# EAGLE library part 24AA1025-I_P (library SamacSys_Parts)
Microchip 24AA1025-I/P Serial EEPROM Memory, 1Mbit, 900ns, 1.7 5.5 V 8-pin PDIP Source: Datasheet <https://componentsearchengine.com/Datasheets/1/24AA1025-I_P.pdf>
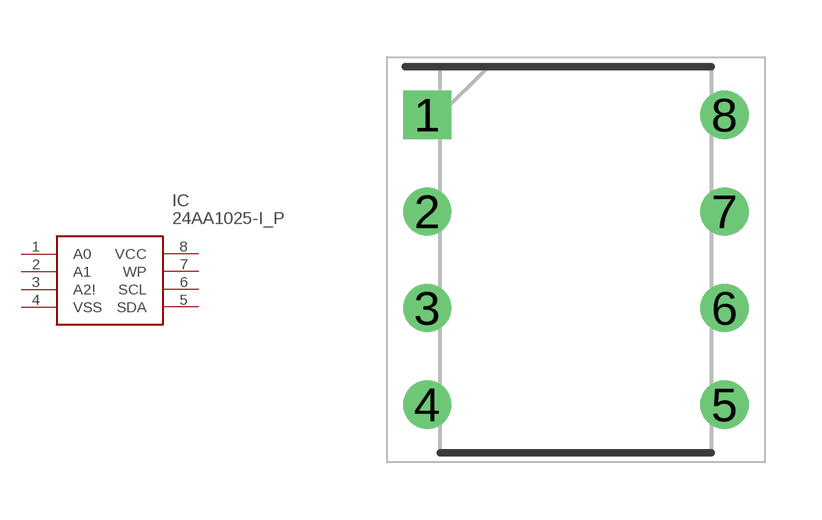
[diagram p1: symbol with the pads of DIP781W56P254L950H533Q8N; footprint DIP781W56P254L950H533Q8N]

Designator prefix IC

## 24AA1025-I_P (DESCRIPTION: Microchip 24AA1025-I/P Serial EEPROM Memory, 1Mbit, 900ns, 1.7 5.5 V 8-pin PDIP; HEIGHT: 5.334mm; MANUFACTURER_NAME: Microchip; MANUFACTURER_PART_NUMBER: 24AA1025-I/P; MOUSER_PART_NUMBER: 579-24AA1025-I/P)  [DIP781W56P254L950H533Q8N]
1  A0
2  A1
3  A2!
4  VSS  pwr
5  SDA
6  SCL
7  WP
8  VCC  pwr

## Footprint DIP781W56P254L950H533Q8N (pad centres in mm)
8-Lead Plastic Dual In-Line (P) - 300 mil Body [PDIP]
drill 0.759 pad 1.159 square: 1 -3.905,3.81
drill 0.759 pad 1.159: 2 -3.905,1.27; 3 -3.905,-1.27; 4 -3.905,-3.81; 5 3.905,-3.81; 6 3.905,-1.27; 7 3.905,1.27; 8 3.905,3.81